# Altium footprint library ds1021_2x3sf11_b.PcbLib: 1 footprints
Each footprint in its own frame and in the unit in brackets; x right, y up, seen from the top. Pads: shape width x height; smd on the part's side, far side on the other; paste and mask are expansions set on the pad; w line width, h text height; cw(c..) or ccw(c..) is an arc to the next point about the centre after c.
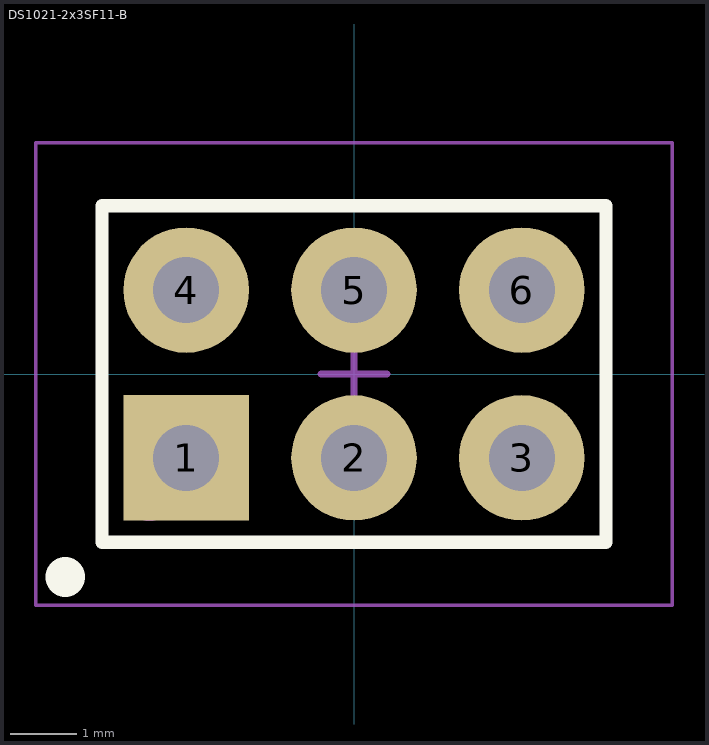
[diagram p0: the footprint, top view; thin cyan lines are the x and y axes]

## DS1021-2x3SF11-B [mm] "PLD 6 Pins 2,54mm Plug Header V/T Type"
height 8.6
pads (6):
  rect 1.9x1.9 hole 1: 1(-2.54,-1.27)
  round 1.9 hole 1: 2(0,-1.27) 4(-2.54,1.27)
  round 1.9 hole 1 mask+0.102: 3(2.54,-1.27) 5(0,1.27) 6(2.54,1.27)
Top Overlay:
  circle w0.6: c-4.37,-3.07 r0.001
  lines w0.2: 3.81,-2.545 -3.815,-2.545 -3.815,2.545 3.815,2.545 3.815,-2.545
Top Comment (Mech7):
  text ".Comment" at 1.003,3.656 h1.2
Top Designator:
  text ".Designator" at -0.14,3.656 h1.2
Top Component Outline:
  circle w0.35: c-3.1,-1.9 r0.15
  lines w0.1: 3.81,-2.545 -3.815,-2.545 -3.815,2.545 3.815,2.545 3.815,-2.545
Top Courtyard:
  lines w0.05: -4.815,-3.5 4.815,-3.5 4.815,3.5 -4.815,3.5 -4.815,-3.5
  lines w0.1: -0.5,0 0.5,0 ; 0,-0.5 0,0.5
3D body "DS1021-1x3SF112 (PLS-3).STEP": height 8.59, standoff -2.95, extent -3.81,0 3.81,2.54
3D body "DS1021-1x3SF112 (PLS-3).STEP": height 8.59, standoff -2.95, extent -3.81,-2.54 3.81,0